# Altium footprint library DC-DC.PcbLib: 8 footprints
Each footprint in its own frame and in the unit in brackets; x right, y up, seen from the top. Pads: shape width x height; smd on the part's side, far side on the other; paste and mask are expansions set on the pad; w line width, h text height; cw(c..) or ccw(c..) is an arc to the next point about the centre after c.
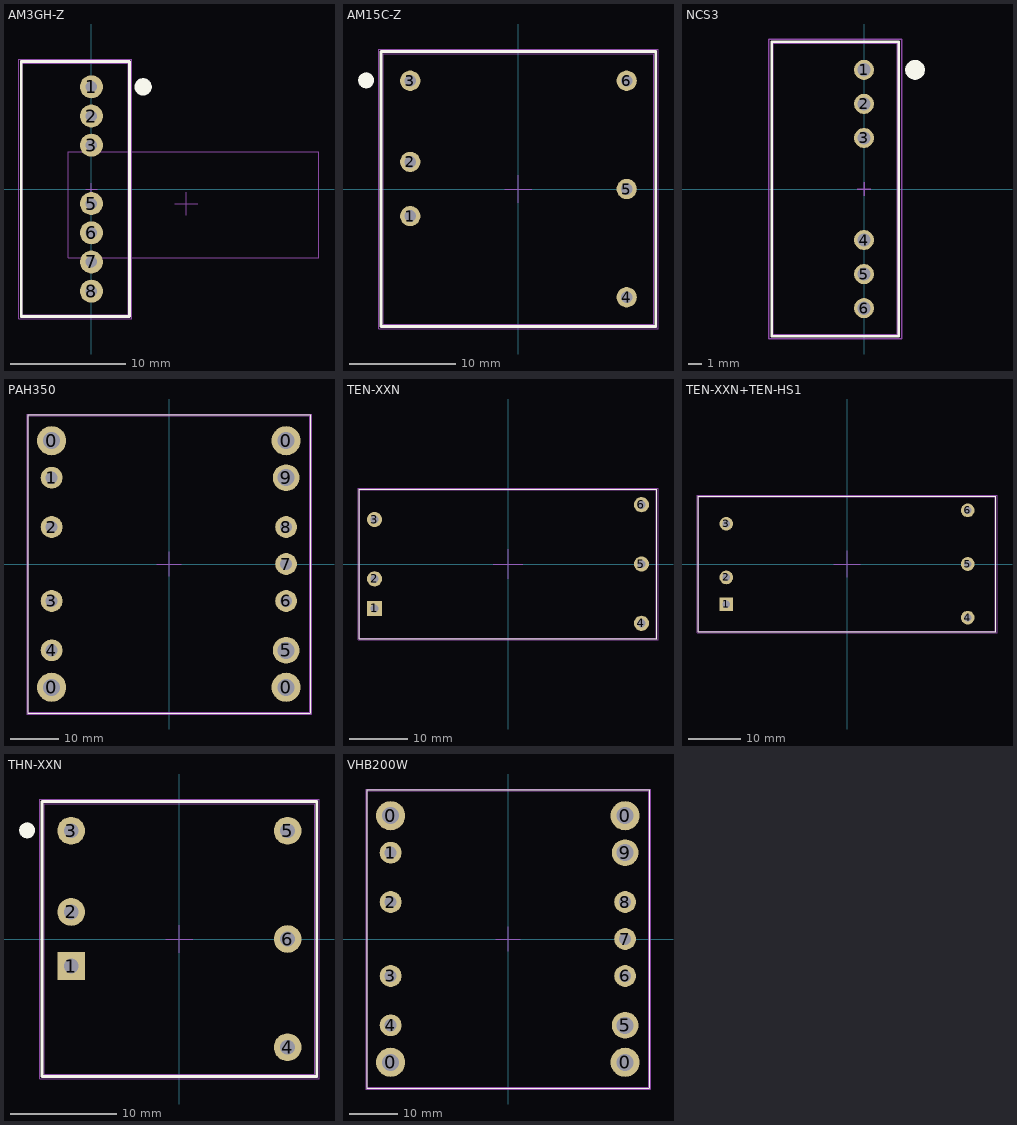
[diagram p0: the footprints below, top view; thin cyan lines are the x and y axes]

## AM3GH-Z [mm]
pads (8):
  round 2 hole 1: 1(0,8.89) 2(0,6.35) 3(0,3.81) 5(0,-1.27) 6(0,-3.81) 7(0,-6.35) 8(0,-8.89)
  round 1.524 on Top Overlay: ""(4.5,8.89)
Top Overlay:
  lines w0.25: -6.1,-11.1 -6.1,11.1 3.3,11.1 3.3,-11.1 -6.1,-11.1
Mechanical 1:
  lines w0.1: -6,-10.925 3.2,-10.925 3.2,10.925 -6,10.925 -6,-10.925
Mechanical 3:
  lines w0.1: 7.255,-1.27 9.255,-1.27 ; 8.255,-2.27 8.255,-0.27 ; -2,-5.975 -2,3.25 19.8,3.25 19.8,-5.975 -2,-5.975
Mechanical 15:
  lines w0.1: -0.5,0 0.5,0 ; 0,-0.5 0,0.5 ; -6.3,-11.3 3.5,-11.3 3.5,11.3 -6.3,11.3 -6.3,-11.3
3D body "Converter_DCDC_XP_POWER-ITxxxxxS_THT.step": height 10.66, standoff -2.99, extent -6,-10.925 3.2,10.925

## AM15C-Z [mm]
pads (7):
  round 1.9 hole 1.1: 1(-10.16,-2.54) 2(-10.16,2.54) 3(-10.16,10.16) 4(10.16,-10.16) 5(10.16,0) 6(10.16,10.16)
  round 1.524 on Top Overlay: ""(-14.3,10.2)
Top Overlay:
  lines w0.25: -12.9,-12.9 -12.9,12.9 12.9,12.9 12.9,-12.9 -12.9,-12.9
Mechanical 1:
  lines w0.1: -12.7,-12.7 -12.7,12.7 12.7,12.7 12.7,-12.7 -12.7,-12.7
Mechanical 15:
  lines w0.1: -1.27,0 1.27,0 ; 0,-1.27 0,1.27 ; -13.1,-13.1 -13.1,13.1 13.1,13.1 13.1,-13.1 -13.1,-13.1
3D body "ccg15_outline.STEP": height 9.9, standoff -3.5, extent -12.7,-12.7 12.7,12.7

## NCS3 [mm]
pads (7):
  round 1.5 hole 1: 1(0,8.89) 2(0,6.35) 3(0,3.81) 4(0,-3.81) 5(0,-6.35) 6(0,-8.89)
  round 1.5 on Top Overlay: ""(3.81,8.89)
Top Overlay:
  lines w0.2: -6.9,-11 2.6,-11 2.6,11 -6.9,11 -6.9,-11
Mechanical 1:
  lines w0.1: -6.82,-10.9 -6.82,10.9 2.5,10.9 2.5,-10.9 -6.82,-10.9
Mechanical 15:
  lines w0.1: -0.5,0 0.5,0 ; 0,-0.5 0,0.5 ; -7.1,-11.2 2.8,-11.2 2.8,11.2 -7.1,11.2 -7.1,-11.2
3D body "mps_dcdc_ncs3s_sc_a.step": height 11.1, standoff -4.1, extent -6.82,-10.9 2.5,10.9

## PAH350 [mm]
pads (13):
  round 6 hole 3.5: 0(-24.17,-25.4) 0(-24.17,25.4) 0(24.13,-25.4) 0(24.13,25.4)
  round 4.5 hole 2.5: 1(-24.17,17.78) 2(-24.17,7.62) 3(-24.17,-7.62) 4(-24.17,-17.78) 6(24.13,-7.62) 7(24.13,0) 8(24.13,7.62)
  round 5.5 hole 3.5: 5(24.13,-17.78) 9(24.13,17.78)
Top Overlay:
  lines w0.25: -29.1,-30.7 29.1,-30.7 29.1,30.7 -29.1,30.7 -29.1,-30.7
Mechanical 1:
  lines w0.1: -28.95,-30.5 28.95,-30.5 28.95,30.5 -28.95,30.5 -28.95,-30.5
Mechanical 15:
  lines w0.1: -2.5,0 2.5,0 ; 0,-2.5 0,2.5 ; -29.3,-30.9 29.3,-30.9 29.3,30.9 -29.3,30.9 -29.3,-30.9
3D body "PAH300-450 3D.STEP": height 12.7, standoff -5, extent -28.95,-30.5 28.95,30.5

## TEN-XXN [mm]
pads (6):
  rect 2.6x2.6 hole 1.4 unplated: 1(-22.86,-7.62)
  round 2.6 hole 1.4 unplated: 2(-22.86,-2.54) 3(-22.86,7.62) 4(22.86,-10.16) 5(22.86,0) 6(22.86,10.16)
Top Overlay:
  lines w0.2: -25.5,-12.8 25.5,-12.8 25.5,12.8 -25.5,12.8 -25.5,-12.8
Mechanical 1:
  lines w0.1: -25.4,-12.7 -25.4,12.7 25.4,12.7 25.4,-12.7 -25.4,-12.7
Mechanical 15:
  lines w0.1: -2.54,0 2.54,0 ; 0,-2.54 0,2.54 ; -25.7,-13 -25.7,13 25.7,13 25.7,-13 -25.7,-13
3D body "ten40n_3d_drawing.stp": height 11.1, standoff -5.4, extent -25.4,-12.7 25.4,12.7

## TEN-XXN+TEN-HS1 [mm]
pads (6):
  rect 2.6x2.6 hole 1.4 unplated: 1(-22.86,-7.62)
  round 2.6 hole 1.4 unplated: 2(-22.86,-2.54) 3(-22.86,7.62) 4(22.86,-10.16) 5(22.86,0) 6(22.86,10.16)
Top Overlay:
  lines w0.2: -28.2,-12.8 28.2,-12.8 28.2,12.8 -28.2,12.8 -28.2,-12.8
Mechanical 1:
  lines w0.1: -28.096,-12.7 28.096,-12.7 28.096,12.7 -28.096,12.7 -28.096,-12.7
Mechanical 15:
  lines w0.1: -2.54,0 2.54,0 ; 0,-2.54 0,2.54 ; -28.4,-13 28.4,-13 28.4,13 -28.4,13 -28.4,-13
3D body "ten30win-with-heatsink.stp": height 16.71, standoff -5.19, extent -28.096,-12.7 28.096,12.7

## THN-XXN [mm]
pads (7):
  rect 2.6x2.6 hole 1.4 unplated: 1(-10.16,-2.54)
  round 2.6 hole 1.4 unplated: 2(-10.16,2.54) 3(-10.16,10.16) 4(10.16,-10.16) 5(10.16,10.16) 6(10.16,0)
  round 1.524 on Top Overlay: ""(-14.3,10.2)
Top Overlay:
  lines w0.25: -12.9,-12.9 -12.9,12.9 12.9,12.9 12.9,-12.9 -12.9,-12.9
Mechanical 1:
  lines w0.1: -12.7,-12.7 -12.7,12.7 12.7,12.7 12.7,-12.7 -12.7,-12.7
Mechanical 15:
  lines w0.1: -1.27,0 1.27,0 ; 0,-1.27 0,1.27 ; -13.1,-13.1 -13.1,13.1 13.1,13.1 13.1,-13.1 -13.1,-13.1
3D body "ccg15_outline.STEP": height 9.9, standoff -3.5, extent -12.7,-12.7 12.7,12.7

## VHB200W [mm]
pads (13):
  round 6 hole 3.5: 0(-24.17,-25.4) 0(-24.17,25.4) 0(24.13,-25.4) 0(24.13,25.4)
  round 4.5 hole 2.5: 1(-24.17,17.78) 2(-24.17,7.62) 3(-24.17,-7.62) 4(-24.17,-17.78) 6(24.13,-7.62) 7(24.13,0) 8(24.13,7.62)
  round 5.5 hole 3.5: 5(24.13,-17.78) 9(24.13,17.78)
Top Overlay:
  lines w0.25: -29.1,-30.7 -29.1,30.7 29.1,30.7 29.1,-30.7 -29.1,-30.7
Mechanical 1:
  lines w0.1: -28.95,-30.5 -28.95,30.5 28.95,30.5 28.95,-30.5 -28.95,-30.5
Mechanical 15:
  lines w0.1: -2.5,0 2.5,0 ; 0,-2.5 0,2.5 ; -29.3,-30.9 -29.3,30.9 29.3,30.9 29.3,-30.9 -29.3,-30.9
3D body "PAH300-450 3D.STEP": height 12.7, standoff -5, extent -28.95,-30.5 28.95,30.5